# EAGLE library part CONN_2X130_ZZ_SH2 (library GPLIB_CONN)
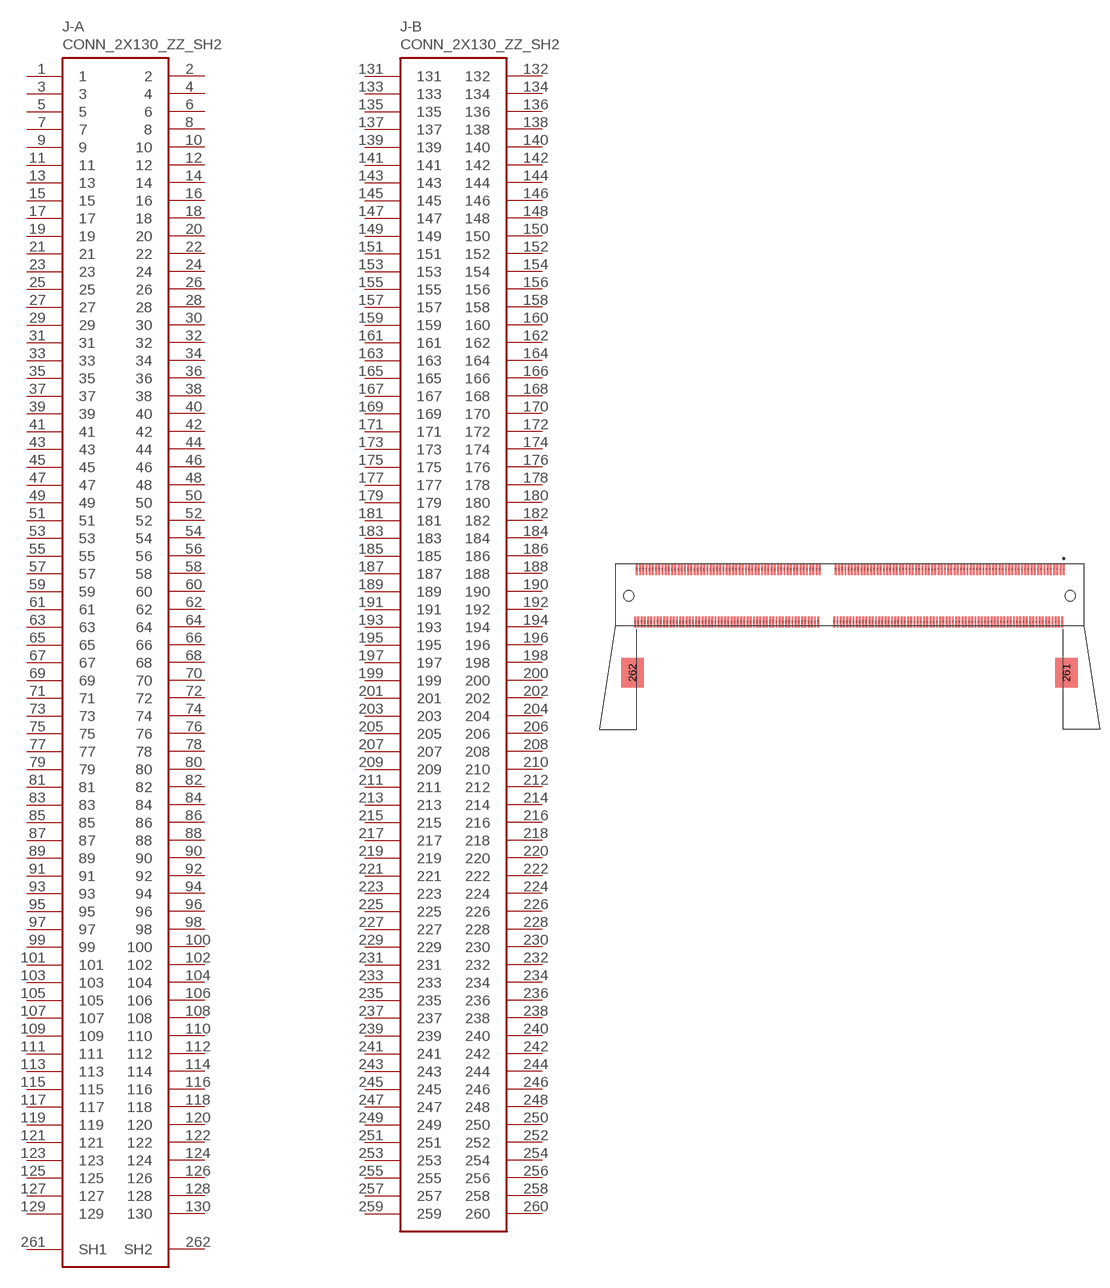
[diagram p26: symbol with the pads of CONN_SO_DIMM_260P_0.5MM_SM_RA_TE_2309409_2; footprint CONN_SO_DIMM_260P_0.5MM_SM_RA_TE_2309409_2]

Designator prefix J; gates -A=CONN_2X65_ZZ_SH2 -B=CONN_2X65_ZZ_131-260

## CONN_2X130_ZZ_SH2_0.5MM_SM_RA_TE_2309409_2  [CONN_SO_DIMM_260P_0.5MM_SM_RA_TE_2309409_2]
1  -A:1  pas
2  -A:2  pas
3  -A:3  pas
4  -A:4  pas
5  -A:5  pas
6  -A:6  pas
7  -A:7  pas
8  -A:8  pas
9  -A:9  pas
10  -A:10  pas
11  -A:11  pas
12  -A:12  pas
13  -A:13  pas
14  -A:14  pas
15  -A:15  pas
16  -A:16  pas
17  -A:17  pas
18  -A:18  pas
19  -A:19  pas
20  -A:20  pas
21  -A:21  pas
22  -A:22  pas
23  -A:23  pas
24  -A:24  pas
25  -A:25  pas
26  -A:26  pas
27  -A:27  pas
28  -A:28  pas
29  -A:29  pas
30  -A:30  pas
31  -A:31  pas
32  -A:32  pas
33  -A:33  pas
34  -A:34  pas
35  -A:35  pas
36  -A:36  pas
37  -A:37  pas
38  -A:38  pas
39  -A:39  pas
40  -A:40  pas
41  -A:41  pas
42  -A:42  pas
43  -A:43  pas
44  -A:44  pas
45  -A:45  pas
46  -A:46  pas
47  -A:47  pas
48  -A:48  pas
49  -A:49  pas
50  -A:50  pas
51  -A:51  pas
52  -A:52  pas
53  -A:53  pas
54  -A:54  pas
55  -A:55  pas
56  -A:56  pas
57  -A:57  pas
58  -A:58  pas
59  -A:59  pas
60  -A:60  pas
61  -A:61  pas
62  -A:62  pas
63  -A:63  pas
64  -A:64  pas
65  -A:65  pas
66  -A:66  pas
67  -A:67  pas
68  -A:68  pas
69  -A:69  pas
70  -A:70  pas
71  -A:71  pas
72  -A:72  pas
73  -A:73  pas
74  -A:74  pas
75  -A:75  pas
76  -A:76  pas
77  -A:77  pas
78  -A:78  pas
79  -A:79  pas
80  -A:80  pas
81  -A:81  pas
82  -A:82  pas
83  -A:83  pas
84  -A:84  pas
85  -A:85  pas
86  -A:86  pas
87  -A:87  pas
88  -A:88  pas
89  -A:89  pas
90  -A:90  pas
91  -A:91  pas
92  -A:92  pas
93  -A:93  pas
94  -A:94  pas
95  -A:95  pas
96  -A:96  pas
97  -A:97  pas
98  -A:98  pas
99  -A:99  pas
100  -A:100  pas
101  -A:101  pas
102  -A:102  pas
103  -A:103  pas
104  -A:104  pas
105  -A:105  pas
106  -A:106  pas
107  -A:107  pas
108  -A:108  pas
109  -A:109  pas
110  -A:110  pas
111  -A:111  pas
112  -A:112  pas
113  -A:113  pas
114  -A:114  pas
115  -A:115  pas
116  -A:116  pas
117  -A:117  pas
118  -A:118  pas
119  -A:119  pas
120  -A:120  pas
121  -A:121  pas
122  -A:122  pas
123  -A:123  pas
124  -A:124  pas
125  -A:125  pas
126  -A:126  pas
127  -A:127  pas
128  -A:128  pas
129  -A:129  pas
130  -A:130  pas
131  -B:131  pas
132  -B:132  pas
133  -B:133  pas
134  -B:134  pas
135  -B:135  pas
136  -B:136  pas
137  -B:137  pas
138  -B:138  pas
139  -B:139  pas
140  -B:140  pas
141  -B:141  pas
142  -B:142  pas
143  -B:143  pas
144  -B:144  pas
145  -B:145  pas
146  -B:146  pas
147  -B:147  pas
148  -B:148  pas
149  -B:149  pas
150  -B:150  pas
151  -B:151  pas
152  -B:152  pas
153  -B:153  pas
154  -B:154  pas
155  -B:155  pas
156  -B:156  pas
157  -B:157  pas
158  -B:158  pas
159  -B:159  pas
160  -B:160  pas
161  -B:161  pas
162  -B:162  pas
163  -B:163  pas
164  -B:164  pas
165  -B:165  pas
166  -B:166  pas
167  -B:167  pas
168  -B:168  pas
169  -B:169  pas
170  -B:170  pas
171  -B:171  pas
172  -B:172  pas
173  -B:173  pas
174  -B:174  pas
175  -B:175  pas
176  -B:176  pas
177  -B:177  pas
178  -B:178  pas
179  -B:179  pas
180  -B:180  pas
181  -B:181  pas
182  -B:182  pas
183  -B:183  pas
184  -B:184  pas
185  -B:185  pas
186  -B:186  pas
187  -B:187  pas
188  -B:188  pas
189  -B:189  pas
190  -B:190  pas
191  -B:191  pas
192  -B:192  pas
193  -B:193  pas
194  -B:194  pas
195  -B:195  pas
196  -B:196  pas
197  -B:197  pas
198  -B:198  pas
199  -B:199  pas
200  -B:200  pas
201  -B:201  pas
202  -B:202  pas
203  -B:203  pas
204  -B:204  pas
205  -B:205  pas
206  -B:206  pas
207  -B:207  pas
208  -B:208  pas
209  -B:209  pas
210  -B:210  pas
211  -B:211  pas
212  -B:212  pas
213  -B:213  pas
214  -B:214  pas
215  -B:215  pas
216  -B:216  pas
217  -B:217  pas
218  -B:218  pas
219  -B:219  pas
220  -B:220  pas
221  -B:221  pas
222  -B:222  pas
223  -B:223  pas
224  -B:224  pas
225  -B:225  pas
226  -B:226  pas
227  -B:227  pas
228  -B:228  pas
229  -B:229  pas
230  -B:230  pas
231  -B:231  pas
232  -B:232  pas
233  -B:233  pas
234  -B:234  pas
235  -B:235  pas
236  -B:236  pas
237  -B:237  pas
238  -B:238  pas
239  -B:239  pas
240  -B:240  pas
241  -B:241  pas
242  -B:242  pas
243  -B:243  pas
244  -B:244  pas
245  -B:245  pas
246  -B:246  pas
247  -B:247  pas
248  -B:248  pas
249  -B:249  pas
250  -B:250  pas
251  -B:251  pas
252  -B:252  pas
253  -B:253  pas
254  -B:254  pas
255  -B:255  pas
256  -B:256  pas
257  -B:257  pas
258  -B:258  pas
259  -B:259  pas
260  -B:260  pas
261  -A:SH1  pas
262  -A:SH2  pas

## Footprint CONN_SO_DIMM_260P_0.5MM_SM_RA_TE_2309409_2 (pad centres in mm)
smd 0.3 x 1.75: 1 33.375,8.05; 2 33.125,-0.15; 3 32.875,8.05; 4 32.625,-0.15; 5 32.375,8.05; 6 32.125,-0.15; 7 31.875,8.05; 8 31.625,-0.15; 9 31.375,8.05; 10 31.125,-0.15; 11 30.875,8.05; 12 30.625,-0.15; 13 30.375,8.05; 14 30.125,-0.15; 15 29.875,8.05; 16 29.625,-0.15; 17 29.375,8.05; 18 29.125,-0.15; 19 28.875,8.05; 20 28.625,-0.15; 21 28.375,8.05; 22 28.125,-0.15; 23 27.875,8.05; 24 27.625,-0.15; 25 27.375,8.05; 26 27.125,-0.15; 27 26.875,8.05; 28 26.625,-0.15; 29 26.375,8.05; 30 26.125,-0.15; 31 25.875,8.05; 32 25.625,-0.15; 33 25.375,8.05; 34 25.125,-0.15; 35 24.875,8.05; 36 24.625,-0.15; 37 24.375,8.05; 38 24.125,-0.15; 39 23.875,8.05; 40 23.625,-0.15; 41 23.375,8.05; 42 23.125,-0.15; 43 22.875,8.05; 44 22.625,-0.15; 45 22.375,8.05; 46 22.125,-0.15; 47 21.875,8.05; 48 21.625,-0.15; 49 21.375,8.05; 50 21.125,-0.15; 51 20.875,8.05; 52 20.625,-0.15; 53 20.375,8.05; 54 20.125,-0.15; 55 19.875,8.05; 56 19.625,-0.15; 57 19.375,8.05; 58 19.125,-0.15; 59 18.875,8.05; 60 18.625,-0.15; 61 18.375,8.05; 62 18.125,-0.15; 63 17.875,8.05; 64 17.625,-0.15; 65 17.375,8.05; 66 17.125,-0.15; 67 16.875,8.05; 68 16.625,-0.15; 69 16.375,8.05; 70 16.125,-0.15; 71 15.875,8.05; 72 15.625,-0.15; 73 15.375,8.05; 74 15.125,-0.15; 75 14.875,8.05; 76 14.625,-0.15; 77 14.375,8.05; 78 14.125,-0.15; 79 13.875,8.05; 80 13.625,-0.15; 81 13.375,8.05; 82 13.125,-0.15; 83 12.875,8.05; 84 12.625,-0.15; 85 12.375,8.05; 86 12.125,-0.15; 87 11.875,8.05; 88 11.625,-0.15; 89 11.375,8.05; 90 11.125,-0.15; 91 10.875,8.05; 92 10.625,-0.15; 93 10.375,8.05; 94 10.125,-0.15; 95 9.875,8.05; 96 9.625,-0.15; 97 9.375,8.05; 98 9.125,-0.15; 99 8.875,8.05; 100 8.625,-0.15; 101 8.375,8.05; 102 8.125,-0.15; 103 7.875,8.05; 104 7.625,-0.15; 105 7.375,8.05; 106 7.125,-0.15; 107 6.875,8.05; 108 6.625,-0.15; 109 6.375,8.05; 110 6.125,-0.15; 111 5.875,8.05; 112 5.625,-0.15; 113 5.375,8.05; 114 5.125,-0.15; 115 4.875,8.05; 116 4.625,-0.15; 117 4.375,8.05; 118 4.125,-0.15; 119 3.875,8.05; 120 3.625,-0.15; 121 3.375,8.05; 122 3.125,-0.15; 123 2.875,8.05; 124 2.625,-0.15; 125 2.375,8.05; 126 2.125,-0.15; 127 1.875,8.05; 128 1.625,-0.15; 129 1.375,8.05; 130 1.125,-0.15; 131 0.875,8.05; 132 0.625,-0.15; 133 0.375,8.05; 134 0.125,-0.15; 135 -0.125,8.05; 136 -0.375,-0.15; 137 -0.625,8.05; 138 -0.875,-0.15; 139 -1.125,8.05; 140 -1.375,-0.15; 141 -1.625,8.05; 142 -1.875,-0.15; 143 -2.125,8.05; 144 -2.375,-0.15; 145 -4.625,8.05; 146 -4.875,-0.15; 147 -5.125,8.05; 148 -5.375,-0.15; 149 -5.625,8.05; 150 -5.875,-0.15; 151 -6.125,8.05; 152 -6.375,-0.15; 153 -6.625,8.05; 154 -6.875,-0.15; 155 -7.125,8.05; 156 -7.375,-0.15; 157 -7.625,8.05; 158 -7.875,-0.15; 159 -8.125,8.05; 160 -8.375,-0.15; 161 -8.625,8.05; 162 -8.875,-0.15; 163 -9.125,8.05; 164 -9.375,-0.15; 165 -9.625,8.05; 166 -9.875,-0.15; 167 -10.125,8.05; 168 -10.375,-0.15; 169 -10.625,8.05; 170 -10.875,-0.15; 171 -11.125,8.05; 172 -11.375,-0.15; 173 -11.625,8.05; 174 -11.875,-0.15; 175 -12.125,8.05; 176 -12.375,-0.15; 177 -12.625,8.05; 178 -12.875,-0.15; 179 -13.125,8.05; 180 -13.375,-0.15; 181 -13.625,8.05; 182 -13.875,-0.15; 183 -14.125,8.05; 184 -14.375,-0.15; 185 -14.625,8.05; 186 -14.875,-0.15; 187 -15.125,8.05; 188 -15.375,-0.15; 189 -15.625,8.05; 190 -15.875,-0.15; 191 -16.125,8.05; 192 -16.375,-0.15; 193 -16.625,8.05; 194 -16.875,-0.15; 195 -17.125,8.05; 196 -17.375,-0.15; 197 -17.625,8.05; 198 -17.875,-0.15; 199 -18.125,8.05; 200 -18.375,-0.15; 201 -18.625,8.05; 202 -18.875,-0.15; 203 -19.125,8.05; 204 -19.375,-0.15; 205 -19.625,8.05; 206 -19.875,-0.15; 207 -20.125,8.05; 208 -20.375,-0.15; 209 -20.625,8.05; 210 -20.875,-0.15; 211 -21.125,8.05; 212 -21.375,-0.15; 213 -21.625,8.05; 214 -21.875,-0.15; 215 -22.125,8.05; 216 -22.375,-0.15; 217 -22.625,8.05; 218 -22.875,-0.15; 219 -23.125,8.05; 220 -23.375,-0.15; 221 -23.625,8.05; 222 -23.875,-0.15; 223 -24.125,8.05; 224 -24.375,-0.15; 225 -24.625,8.05; 226 -24.875,-0.15; 227 -25.125,8.05; 228 -25.375,-0.15; 229 -25.625,8.05; 230 -25.875,-0.15; 231 -26.125,8.05; 232 -26.375,-0.15; 233 -26.625,8.05; 234 -26.875,-0.15; 235 -27.125,8.05; 236 -27.375,-0.15; 237 -27.625,8.05; 238 -27.875,-0.15; 239 -28.125,8.05; 240 -28.375,-0.15; 241 -28.625,8.05; 242 -28.875,-0.15; 243 -29.125,8.05; 244 -29.375,-0.15; 245 -29.625,8.05; 246 -29.875,-0.15; 247 -30.125,8.05; 248 -30.375,-0.15; 249 -30.625,8.05; 250 -30.875,-0.15; 251 -31.125,8.05; 252 -31.375,-0.15; 253 -31.625,8.05; 254 -31.875,-0.15; 255 -32.125,8.05; 256 -32.375,-0.15; 257 -32.625,8.05; 258 -32.875,-0.15; 259 -33.125,8.05; 260 -33.375,-0.15
smd 3.5 x 4.6: 261 33.8,-8.05; 262 -33.8,-8.05
hole 1.6 at -34.4,3.95
hole 1.6 at 34.4,3.95